# EAGLE library part MAX9636 (library components)
MAX9636 Single Low Offset Opamp with active low shutdown pin
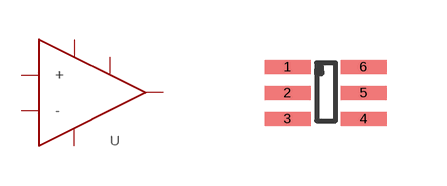
[diagram p15: symbol with the pads of 6-SC70; footprint 6-SC70]

Designator prefix -

## MAX9636  [6-SC70]
1  +  in
2  GND  pwr
3  -  in
4  OUT  out
5  SHUT  in
6  VCC  pwr

## Footprint 6-SC70 (pad centres in mm)
smd 1.15 x 0.35: 1 -0.95,0.65; 2 -0.95,0; 3 -0.95,-0.65; 4 0.95,-0.65; 5 0.95,0; 6 0.95,0.65